# Altium integrated library TANTALUM-SMD-100UF-6.3V_AVX-B_.IntLib: 1 symbol
Pins are listed as number, name and electrical type; pins without a type are passive.

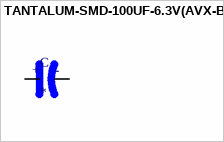
[diagram p0: symbol TANTALUM-SMD-100UF-6.3V(AVX-B)]

## TANTALUM-SMD-100UF-6.3V(AVX-B)
designator C
100ÂµF Molded Tantalum Capacitors 6.3V 1411 _3528 Metric_, 1210 1.7Ohm; MF: AVX Interconnect / Elco; MP: TAJB107M006RNJ; Value: *; Package: 1210 AVX Interconnect / Elco; SnapEDA_Link: https://www.snapeda.com/parts/TAJB107M006RNJ/AVX%20Interconnect%20/%20Elco/view-part/105606/?ref=snap; Price: None; Availability: Unavailable
footprint AVX-B
pins: NEG, POS
text: +; -